# Altium footprint library HabLib.PcbLib: 72 footprints (part 4 of 5)
Each footprint in its own frame and in the unit in brackets; x right, y up, seen from the top. Pads: shape width x height; smd on the part's side, far side on the other; paste and mask are expansions set on the pad; w line width, h text height; cw(c..) or ccw(c..) is an arc to the next point about the centre after c.
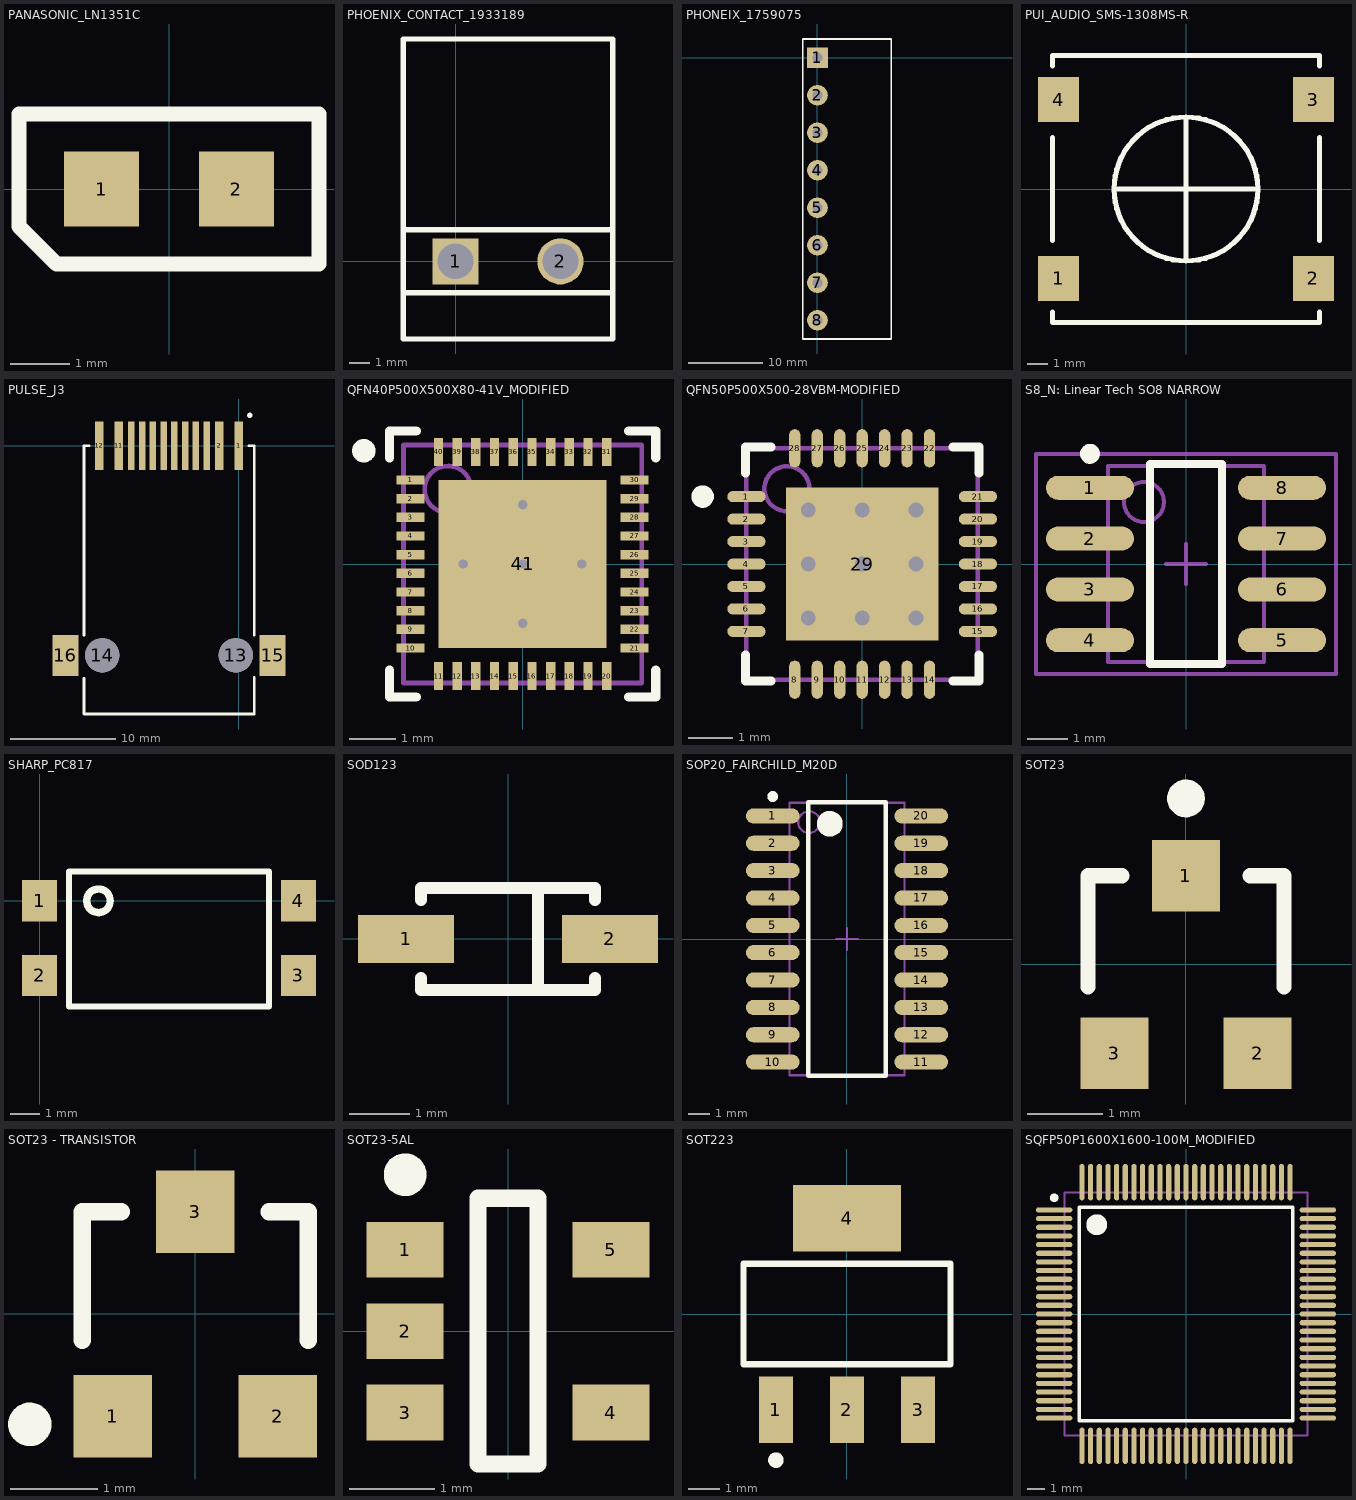
[diagram p3: the footprints below, top view; thin cyan lines are the x and y axes]

## PANASONIC_LN1351C [mil] "LED, MFG: PANASONIC, PN: LN1351C"
pads (2):
  rect 50x50 smd: 1(-45,0) 2(45,0)
Top Overlay:
  lines w10: -100,-25 -75,-50 100,-50 100,50 -100,50 -100,-25
3D body: height 5, standoff 0, extent -75,-25 75,25
3D body: height 50, standoff 0, extent -100,-50 100,50
3D body: height 55, standoff 50, extent -75,-25 75,25

## PHOENIX_CONTACT_1933189 [mm] "Chip Resistor, Body 2.0x1.3mm, IPC Medium Density"
height 0.65
pads (2):
  rect 2.2x2.2 hole 1.7: 1(0,0)
  round 2.2 hole 1.7: 2(5,0)
Top Overlay:
  lines w0.254: -2.5,-1.5 7.5,-1.5 ; -2.5,-1.5 -2.5,1.5 ; -2.5,-1.5 -2.5,-3.7 7.5,-3.7 7.5,-1.5 ; -2.5,1.5 7.5,1.5 ; -2.5,1.5 -2.5,10.6 7.5,10.6 7.5,1.5 ; 7.5,-1.5 7.5,1.5
3D body: height 2, standoff 0, extent -2.5,-1.5 7.5,1.5
3D body: height 9.5, standoff 2, extent -0.645,-0.649 0.65,0.649
3D body: height 9.5, standoff 2, extent 4.355,-0.649 5.65,0.649
3D body: height 5, standoff 2, extent -2.5,-3.7 7.5,-1.5
3D body: height 11.4, standoff 0, extent -2.5,1.5 7.5,10.6
3D body: height 11.41, standoff 11.4, extent -1.984,6.004 2,9.996
3D body: height 11.41, standoff 11.4, extent 3.016,6.004 7,9.996
3D body: height 7, standoff 2, extent 3,10.6 7,10.7
3D body: height 7, standoff 2, extent -2,10.6 2,10.7
3D body: height 11.4, standoff 2, extent -2.5,-1.5 7.5,1.5

## PHONEIX_1759075 [mm] "CONN HDR RT ANG 8 POS 5.08MM"
pads (8):
  rect 2.8x2.8 hole 1.4: 1(0,0)
  round 2.8 hole 1.4: 2(0,-5.08) 3(0,-10.16) 4(0,-15.24) 5(0,-20.32) 6(0,-25.4) 7(0,-30.48) 8(0,-35.56)
Top Overlay:
  lines w0.254: -2,-38.1 -2,2.54 10,2.54 10,-38.1 -2,-38.1
3D body: height 4.3, standoff 2.9, extent -0.1,-0.6 9.4,0.6
3D body: height 4.3, standoff 2.9, extent 0,-5.7 9.5,-4.5
3D body: height 4.3, standoff 2.9, extent -0.1,-10.8 9.4,-9.6
3D body: height 4.3, standoff 2.9, extent 0,-15.8 9.5,-14.6
3D body: height 4.3, standoff 2.9, extent 0,-20.9 9.5,-19.7
3D body: height 4.3, standoff 2.9, extent 0,-26 9.5,-24.8
3D body: height 4.3, standoff 2.9, extent 0,-31.1 9.5,-29.9
3D body: height 4.3, standoff 2.9, extent 0,-36.2 9.5,-35
3D body: height 8.6, standoff 0, extent -2,-38.1 10,2.5
3D body: height 0.7, standoff 0, extent -1.7,-37.8 10,2.3
3D body: height 8.6, standoff 7.9, extent -1.7,-37.8 10,2.3

## PUI_AUDIO_SMS-1308MS-R [mm] "SPEAKER 8 OHM SM"
pads (4):
  rect 2x2.2 smd: 1(-6.2,-4.35) 2(6.2,-4.35) 3(6.2,4.35) 4(-6.2,4.35)
Top Overlay:
  circle w0.254: c0,0 r3.5
  lines w0.254: -6.5,-6 -6.5,-6.5 0,-6.5 6.5,-6.5 6.5,-6 ; -6.5,-2.5 -6.5,2.5 ; -6.5,6 -6.5,6.5 0,6.5 6.5,6.5 6.5,6 ; -3.5,0 0,0 ; 0,-3.5 0,0 ; 0,3.5 0,0 ; 3.5,0 0,0 ; 6.5,-2.5 6.5,2.5
3D body: height 4.11, standoff 4.01, extent -3.472,-3.493 3.5,3.493
3D body: height 4, standoff 0, extent -6.5,-6.5 6.5,6.5

## PULSE_J3 [mm] "RJ45 WITH MAGNETICS AND LED"
pads (16):
  rect 0.81x4.6 smd: 1(0,0) 2(-1.84,0) 11(-11.38,0) 12(-13.22,0)
  rect 0.61x4.6 smd: 3(-3.04,0) 4(-4.06,0) 5(-5.08,0) 6(-6.1,0) 7(-7.12,0) 8(-8.14,0) 9(-9.16,0) 10(-10.18,0)
  round 3.25 hole 3.25 unplated: 13(-0.26,-19.92) 14(-12.96,-19.92)
  rect 2.5x3.9 smd: 15(3.24,-19.92) 16(-16.46,-19.92)
Top Overlay:
  circle w0.25: c1.075,2.9 r0.125
  lines w0.254: -14.7,-22.1 -14.7,-25.5 1.5,-25.5 1.5,-22 ; -14.7,-18 -14.7,0 -14.2,0 ; 1,0 1.5,0 1.5,-18
3D body: height 2.54, standoff 0, extent -14.7,-25.5 1.5,0
3D body: height 11.07, standoff 2.54, extent -14.7,-25.5 1.5,0
3D body: height 13.61, standoff 11.07, extent -14.7,-25.5 1.5,0
3D body: height 13, standoff 11.5, extent -12.5,-25.8 -10,-25.5
3D body: height 13, standoff 11.5, extent -3,-25.8 -0.5,-25.5

## QFN40P500X500X80-41V_MODIFIED [mm] "QFN, 40-Leads, Body 5x5 mm, Pitch 0.4mm, NSC Recommended"
height 0.8
pads (41):
  rect 0.6x0.2 smd paste-0.125 mask+0.051: 1(-2.4,1.8) 2(-2.4,1.4) 3(-2.4,1) 4(-2.4,0.6) 5(-2.4,0.2) 6(-2.4,-0.2) 7(-2.4,-0.6) 8(-2.4,-1) 9(-2.4,-1.4) 10(-2.4,-1.8) 21(2.4,-1.8) 22(2.4,-1.4) 23(2.4,-1) 24(2.4,-0.6) 25(2.4,-0.2) 26(2.4,0.2) 27(2.4,0.6) 28(2.4,1) 29(2.4,1.4) 30(2.4,1.8)
  rect 0.2x0.6 smd paste-0.125 mask+0.051: 11(-1.8,-2.4) 12(-1.4,-2.4) 13(-1,-2.4) 14(-0.6,-2.4) 15(-0.2,-2.4) 16(0.2,-2.4) 17(0.6,-2.4) 18(1,-2.4) 19(1.4,-2.4) 20(1.8,-2.4) 31(1.8,2.4) 32(1.4,2.4) 33(1,2.4) 34(0.6,2.4) 35(0.2,2.4) 36(-0.2,2.4) 37(-0.6,2.4) 38(-1,2.4) 39(-1.4,2.4) 40(-1.8,2.4)
  rect 3.6x3.6 smd paste-1.8 mask+0.051: 41(0,0)
via 0,0 diameter 0.5 hole 0.2
via 0,1.27 diameter 0.5 hole 0.2
via -1.27,0 diameter 0.5 hole 0.2
via 0,-1.27 diameter 0.5 hole 0.2
via 1.27,0 diameter 0.5 hole 0.2
Top Overlay:
  circle w0.25: c-3.4,2.425 r0.125
  lines w0.2: -2.85,-2.275 -2.85,-2.85 -2.275,-2.85 ; -2.85,2.275 -2.85,2.85 -2.275,2.85 ; 2.275,-2.85 2.85,-2.85 2.85,-2.275 ; 2.275,2.85 2.85,2.85 2.85,2.275
Top Paste:
  rectangle: 0.1,-1.6 1.6,-0.1
  region: -0.1,-0.1 -1.6,-0.1 -1.6,-1.6 -0.1,-1.6
  region: -0.1,1.6 -1.6,1.6 -1.6,0.1 -0.1,0.1
  rectangle: 0.1,0.1 1.6,1.6
  region: 1.7,2.9 1.7,2.2 1.9,2.2 1.9,2.9
  region: 1.3,2.9 1.3,2.2 1.5,2.2 1.5,2.9
  region: 0.5,2.9 0.5,2.2 0.7,2.2 0.7,2.9
  region: 0.9,2.9 0.9,2.2 1.1,2.2 1.1,2.9
  region: -1.9,2.9 -1.9,2.2 -1.7,2.2 -1.7,2.9
  region: -1.1,2.9 -1.1,2.2 -0.9,2.2 -0.9,2.9
  region: -1.5,2.9 -1.5,2.2 -1.3,2.2 -1.3,2.9
  region: -0.7,2.9 -0.7,2.2 -0.5,2.2 -0.5,2.9
  region: -0.3,2.9 -0.3,2.2 -0.1,2.2 -0.1,2.9
  region: 0.1,2.9 0.1,2.2 0.3,2.2 0.3,2.9
  region: 0.3,-2.9 0.3,-2.2 0.1,-2.2 0.1,-2.9
  region: -0.1,-2.9 -0.1,-2.2 -0.3,-2.2 -0.3,-2.9
  region: -0.5,-2.9 -0.5,-2.2 -0.7,-2.2 -0.7,-2.9
  region: -1.3,-2.9 -1.3,-2.2 -1.5,-2.2 -1.5,-2.9
  region: -0.9,-2.9 -0.9,-2.2 -1.1,-2.2 -1.1,-2.9
  region: -1.7,-2.9 -1.7,-2.2 -1.9,-2.2 -1.9,-2.9
  region: 1.1,-2.9 1.1,-2.2 0.9,-2.2 0.9,-2.9
  region: 0.7,-2.9 0.7,-2.2 0.5,-2.2 0.5,-2.9
  region: 1.5,-2.9 1.5,-2.2 1.3,-2.2 1.3,-2.9
  region: 1.9,-2.9 1.9,-2.2 1.7,-2.2 1.7,-2.9
  rectangle: -2.9,-1.9 -2.2,-1.7
  rectangle: -2.9,-1.5 -2.2,-1.3
  rectangle: -2.9,-0.7 -2.2,-0.5
  rectangle: -2.9,-1.1 -2.2,-0.9
  rectangle: -2.9,1.7 -2.2,1.9
  rectangle: -2.9,0.9 -2.2,1.1
  rectangle: -2.9,1.3 -2.2,1.5
  rectangle: -2.9,0.5 -2.2,0.7
  rectangle: -2.9,0.1 -2.2,0.3
  rectangle: -2.9,-0.3 -2.2,-0.1
  region: 2.9,-0.1 2.2,-0.1 2.2,-0.3 2.9,-0.3
  region: 2.9,0.3 2.2,0.3 2.2,0.1 2.9,0.1
  region: 2.9,0.7 2.2,0.7 2.2,0.5 2.9,0.5
  region: 2.9,1.5 2.2,1.5 2.2,1.3 2.9,1.3
  region: 2.9,1.1 2.2,1.1 2.2,0.9 2.9,0.9
  region: 2.9,1.9 2.2,1.9 2.2,1.7 2.9,1.7
  region: 2.9,-0.9 2.2,-0.9 2.2,-1.1 2.9,-1.1
  region: 2.9,-0.5 2.2,-0.5 2.2,-0.7 2.9,-0.7
  region: 2.9,-1.3 2.2,-1.3 2.2,-1.5 2.9,-1.5
  region: 2.9,-1.7 2.2,-1.7 2.2,-1.9 2.9,-1.9
Mechanical 13:
  circle w0.1: c-1.6,1.6 r0.5
  lines w0.1: -2.55,-2.55 -2.55,2.55 2.55,2.55 2.55,-2.55 -2.55,-2.55
3D body: height 0.8, standoff 0, extent -2.55,-2.55 2.55,2.55

## QFN50P500X500-28VBM-MODIFIED [mm] "28-Pin Plastic Quad Flat No-Lead 0.5 mm Pitch"
height 1
pads (29):
  oval 0.85x0.25 smd: 1(-2.575,1.5) 2(-2.575,1) 3(-2.575,0.5) 4(-2.575,0) 5(-2.575,-0.5) 6(-2.575,-1) 7(-2.575,-1.5) 15(2.575,-1.5) 16(2.575,-1) 17(2.575,-0.5) 18(2.575,0) 19(2.575,0.5) 20(2.575,1) 21(2.575,1.5)
  oval 0.25x0.85 smd: 8(-1.5,-2.575) 9(-1,-2.575) 10(-0.5,-2.575) 11(0,-2.575) 12(0.5,-2.575) 13(1,-2.575) 14(1.5,-2.575) 22(1.5,2.575) 23(1,2.575) 24(0.5,2.575) 25(0,2.575) 26(-0.5,2.575) 27(-1,2.575) 28(-1.5,2.575)
  rect 3.4x3.4 smd: 29(0,0)
via 1.2,-1.2 diameter 0.66 hole 0.33
via 0,-1.2 diameter 0.66 hole 0.33
via -1.2,-1.2 diameter 0.66 hole 0.33
via 1.2,0 diameter 0.66 hole 0.33
via 0,0 diameter 0.66 hole 0.33
via -1.2,0 diameter 0.66 hole 0.33
via 1.2,1.2 diameter 0.66 hole 0.33
via 0,1.2 diameter 0.66 hole 0.33
via -1.2,1.2 diameter 0.66 hole 0.33
Top Overlay:
  circle w0.25: c-3.55,1.5 r0.125
  lines w0.2: -2.6,-2.025 -2.6,-2.6 -2.025,-2.6 ; -2.6,2.025 -2.6,2.6 -2.025,2.6 ; 2.025,-2.6 2.6,-2.6 2.6,-2.025 ; 2.025,2.6 2.6,2.6 2.6,2.025
Mechanical 13:
  circle w0.1: c-1.675,1.675 r0.5
  lines w0.1: -2.575,-2.575 2.575,-2.575 2.575,2.575 -2.575,2.575 -2.575,-2.575
Mechanical 15:
  lines w0.1: -0.5,0 0.5,0 ; 0,-0.5 0,0.5
3D body: height 1, standoff 0, extent -2.575,-2.575 2.575,2.575

## S8_N: Linear Tech SO8 NARROW [mm] "8-Pin Small Outline Integrated Circuit 1.27 mm Pitch, IPC Medium Density"
height 1.76
pads (8):
  oval 2.2x0.6 smd: 1(-2.4,1.905) 2(-2.4,0.635) 3(-2.4,-0.635) 4(-2.4,-1.905) 5(2.4,-1.905) 6(2.4,-0.635) 7(2.4,0.635) 8(2.4,1.905)
Top Overlay:
  circle w0.25: c-2.4,2.755 r0.125
  lines w0.2: -0.9,-2.5 0.9,-2.5 0.9,2.5 -0.9,2.5 -0.9,-2.5
Mechanical 13:
  circle w0.1: c-1.05,1.55 r0.5
  lines w0.1: -1.95,-2.45 1.95,-2.45 1.95,2.45 -1.95,2.45 -1.95,-2.45
Mechanical 15:
  lines w0.1: -0.5,0 0.5,0 ; 0,-0.5 0,0.5 ; -3.75,-2.75 3.75,-2.75 3.75,2.75 -3.75,2.75 -3.75,-2.75
3D body: height 1.76, standoff 0, extent -1.95,-2.45 1.95,2.45

## SHARP_PC817 [mm] "SHARP OPTOCOUPLER PC817"
pads (4):
  rect 1.2x1.4 smd: 1(0,0) 2(0,-2.54) 3(8.8,-2.54) 4(8.8,0)
Top Overlay:
  circle w0.254: c2,0 r0.4
  lines w0.203: 1,-3.6 7.8,-3.6 7.8,1 1,1 1,-3.6
3D body: height 3.5, standoff 0, extent 1,-3.6 7.8,1

## SOD123 [mm] "SOD-123; 2 Leads; Body 2.7 x 1.6 mm, (LxW)"
height 1.35
pads (2):
  rect 1.6x0.8 smd: 1(-1.7,0) 2(1.7,0)
Top Overlay:
  lines w0.2: -1.45,-0.65 -1.45,-0.85 1.45,-0.85 1.45,-0.65 ; -1.45,0.65 -1.45,0.85 1.45,0.85 1.45,0.65 ; 0.5,-0.85 0.5,0.85
3D body: height 1.17, standoff 0.1, extent -1.397,-0.889 1.397,0.889

## SOP20_FAIRCHILD_M20D [mm] "SOP, 20-Leads, Body 12.6x5.3mm, Pitch 1.27mm, IPC Low Density"
height 1.96
pads (20):
  oval 2.5x0.7 smd: 1(-3.45,5.715) 2(-3.45,4.445) 3(-3.45,3.175) 4(-3.45,1.905) 5(-3.45,0.635) 6(-3.45,-0.635) 7(-3.45,-1.905) 8(-3.45,-3.175) 9(-3.45,-4.445) 10(-3.45,-5.715) 11(3.45,-5.715) 12(3.45,-4.445) 13(3.45,-3.175) 14(3.45,-1.905) 15(3.45,-0.635) 16(3.45,0.635) 17(3.45,1.905) 18(3.45,3.175) 19(3.45,4.445) 20(3.45,5.715)
Top Overlay:
  circle w0.25: c-3.45,6.615 r0.125
  circle w0.6: c-0.8,5.35 r0.3
  lines w0.2: -1.8,-6.35 -1.8,6.35 1.8,6.35 1.8,-6.35 -1.8,-6.35
Mechanical 13:
  circle w0.1: c-1.765,5.425 r0.5
  lines w0.1: -2.665,-6.325 -2.665,6.325 2.665,6.325 2.665,-6.325 -2.665,-6.325
Mechanical 15:
  lines w0.1: -0.5,0 0.5,0 ; 0,-0.5 0,0.5
3D body: height 1.96, standoff 0, extent -2.665,-6.325 2.665,6.325

## SOT23 [mm] "SOT-23; 3 Leads; Body 3.1 x 2.5 mm, inc. leads (LxW max), Alternate Lead Configuration"
height 1.1
pads (3):
  rect 0.9x0.95 smd: 1(0,1.175) 2(0.95,-1.175) 3(-0.95,-1.175)
Top Overlay:
  circle w0.25: c0,2.2 r0.125
  lines w0.2: -1.3,-0.3 -1.3,1.175 -0.85,1.175 ; 0.85,1.175 1.3,1.175 1.3,-0.3
3D body: height 1.02, standoff 0.05, extent -1.397,-0.889 1.397,0.889

## SOT23 - TRANSISTOR [mm] "SOT-23; 3 Leads; Body 3.1 x 2.5 mm, inc. leads (LxW max), Alternate Lead Configuration"
height 1.1
pads (3):
  rect 0.9x0.95 smd: 1(-0.95,-1.175) 2(0.95,-1.175) 3(0,1.175)
Top Overlay:
  circle w0.25: c-1.903,-1.27 r0.125
  lines w0.2: -1.3,-0.3 -1.3,1.175 -0.85,1.175 ; 0.85,1.175 1.3,1.175 1.3,-0.3
3D body: height 1.02, standoff 0.05, extent -1.397,-0.889 1.397,0.889

## SOT23-5AL [mm] "SOT23, 5-Leads, Body 2.9x1.6mm, Pitch 0.95mm, Lead Span 2.8mm, IPC High Density"
height 1.45
pads (5):
  rect 0.9x0.65 smd: 1(-1.2,0.95) 2(-1.2,0) 3(-1.2,-0.95) 4(1.2,-0.95) 5(1.2,0.95)
Top Overlay:
  circle w0.25: c-1.2,1.825 r0.125
  lines w0.2: -0.35,-1.55 0.35,-1.55 0.35,1.55 -0.35,1.55 -0.35,-1.55
3D body: height 1.45, standoff 0, extent -0.9,-1.55 0.9,1.55

## SOT223 [mm] "SOT-223/SC-73; 4 Leads; Body 6.7 x 7.3 mm, inc. leads (LxW max)"
height 1.8
pads (4):
  rect 1.1x2.15 smd: 1(-2.3,-3.1) 2(0,-3.1) 3(2.3,-3.1)
  rect 3.5x2.15 smd: 4(0,3.1)
Top Overlay:
  circle w0.25: c-2.3,-4.725 r0.125
  lines w0.2: -3.35,-1.625 -3.35,1.625 3.35,1.625 3.35,-1.625 -3.35,-1.625
3D body: height 1.65, standoff 0.25, extent -3.302,-1.524 3.302,1.524

## SQFP50P1600X1600-100M_MODIFIED [mm] "Shrink QFP, 100-Leads, Body 14x14mm, Pitch 0.5mm, IPC Low Density"
height 1.7
pads (100):
  oval 2.1x0.3 smd: 1(-7.6,6) 2(-7.6,5.5) 3(-7.6,5) 4(-7.6,4.5) 5(-7.6,4) 6(-7.6,3.5) 7(-7.6,3) 8(-7.6,2.5) 9(-7.6,2) 10(-7.6,1.5) 11(-7.6,1) 12(-7.6,0.5) 13(-7.6,0) 14(-7.6,-0.5) 15(-7.6,-1) 16(-7.6,-1.5) 17(-7.6,-2) 18(-7.6,-2.5) 19(-7.6,-3) 20(-7.6,-3.5) 21(-7.6,-4) 22(-7.6,-4.5) 23(-7.6,-5) 24(-7.6,-5.5) 25(-7.6,-6) 51(7.6,-6) 52(7.6,-5.5) 53(7.6,-5) 54(7.6,-4.5) 55(7.6,-4) 56(7.6,-3.5) 57(7.6,-3) 58(7.6,-2.5) 59(7.6,-2) 60(7.6,-1.5) 61(7.6,-1) 62(7.6,-0.5) 63(7.6,0) 64(7.6,0.5) 65(7.6,1) 66(7.6,1.5) 67(7.6,2) 68(7.6,2.5) 69(7.6,3) 70(7.6,3.5) 71(7.6,4) 72(7.6,4.5) 73(7.6,5) 74(7.6,5.5) 75(7.6,6)
  oval 0.3x2.1 smd: 26(-6,-7.6) 27(-5.5,-7.6) 28(-5,-7.6) 29(-4.5,-7.6) 30(-4,-7.6) 31(-3.5,-7.6) 32(-3,-7.6) 33(-2.5,-7.6) 34(-2,-7.6) 35(-1.5,-7.6) 36(-1,-7.6) 37(-0.5,-7.6) 38(0,-7.6) 39(0.5,-7.6) 40(1,-7.6) 41(1.5,-7.6) 42(2,-7.6) 43(2.5,-7.6) 44(3,-7.6) 45(3.5,-7.6) 46(4,-7.6) 47(4.5,-7.6) 48(5,-7.6) 49(5.5,-7.6) 50(6,-7.6) 76(6,7.6) 77(5.5,7.6) 78(5,7.6) 79(4.5,7.6) 80(4,7.6) 81(3.5,7.6) 82(3,7.6) 83(2.5,7.6) 84(2,7.6) 85(1.5,7.6) 86(1,7.6) 87(0.5,7.6) 88(0,7.6) 89(-0.5,7.6) 90(-1,7.6) 91(-1.5,7.6) 92(-2,7.6) 93(-2.5,7.6) 94(-3,7.6) 95(-3.5,7.6) 96(-4,7.6) 97(-4.5,7.6) 98(-5,7.6) 99(-5.5,7.6) 100(-6,7.6)
Top Overlay:
  circle w0.6: c-5.15,5.15 r0.3
  circle w0.25: c-7.6,6.7 r0.125
  lines w0.2: -6.15,-6.15 6.15,-6.15 6.15,6.15 -6.15,6.15 -6.15,-6.15
Mechanical 13:
  lines w0.1: -7,-7 7,-7 7,7 -7,7 -7,-7
3D body: height 1.7, standoff 0, extent -7,-7 7,7
3D body: height 1.75, standoff 1.7, extent -6.5,5.4 -5.504,6.398